# Altium footprint library mw.PcbLib: 123 footprints (part 1 of 8)
Each footprint in its own frame and in the unit in brackets; x right, y up, seen from the top. Pads: shape width x height; smd on the part's side, far side on the other; paste and mask are expansions set on the pad; w line width, h text height; cw(c..) or ccw(c..) is an arc to the next point about the centre after c.
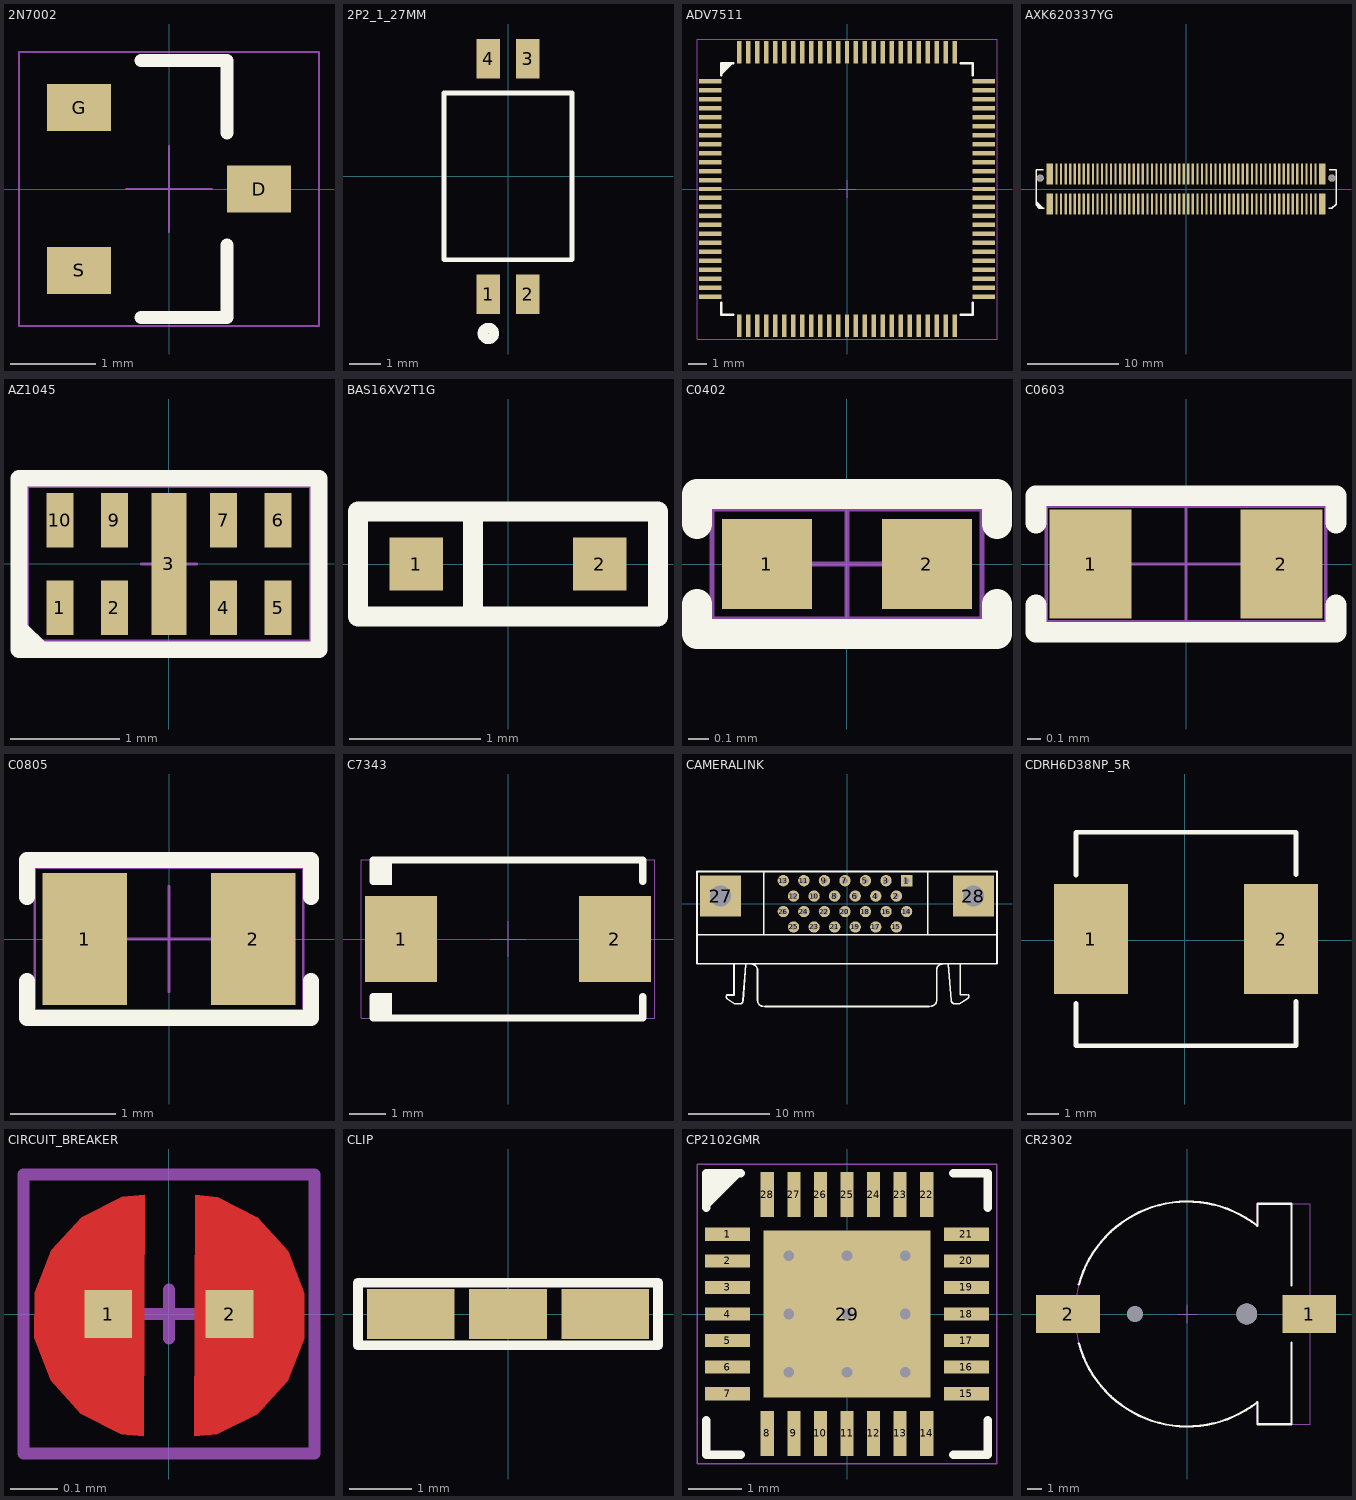
[diagram p0: the footprints below, top view; thin cyan lines are the x and y axes]

## 2N7002 [mm] "SOT23, 3-Leads, Body 2.90x2.40mm, Pitch 0.95mm, IPC High Density"
height 1
pads (3):
  rect 0.75x0.55 smd: D(1.05,0) G(-1.05,0.95) S(-1.05,-0.95)
Top Overlay:
  lines w0.152: -0.325,-1.5 0.675,-1.5 0.675,-0.651 ; -0.325,1.5 0.675,1.5 0.675,0.651
Mechanical 15:
  lines w0.025: -0.5,0 0.5,0 ; 0,-0.5 0,0.5 ; -1.75,-1.6 1.75,-1.6 1.75,1.6 -1.75,1.6 -1.75,-1.6

## 2P2_1_27MM [mm] "2P2_1_27MM"
pads (4):
  rect 0.76x1.27 smd: 1(-0.635,-3.81) 2(0.635,-3.81) 3(0.635,3.81) 4(-0.635,3.81)
Top Overlay:
  circle w0.33: c-0.635,-5.08 r0.18
  lines w0.152: -2.07,-2.7 2.07,-2.7 2.07,2.7 -2.07,2.7 -2.07,-2.7

## ADV7511 [mm] "TSQFP, 100-Leads, Body 14.00x14.00mm, Pitch 0.50mm, IPC High Density"
height 1.6
pads (100):
  rect 1.25x0.25 smd: 1(-7.625,6) 2(-7.625,5.5) 3(-7.625,5) 4(-7.625,4.5) 5(-7.625,4) 6(-7.625,3.5) 7(-7.625,3) 8(-7.625,2.5) 9(-7.625,2) 10(-7.625,1.5) 11(-7.625,1) 12(-7.625,0.5) 13(-7.625,0) 14(-7.625,-0.5) 15(-7.625,-1) 16(-7.625,-1.5) 17(-7.625,-2) 18(-7.625,-2.5) 19(-7.625,-3) 20(-7.625,-3.5) 21(-7.625,-4) 22(-7.625,-4.5) 23(-7.625,-5) 24(-7.625,-5.5) 25(-7.625,-6) 51(7.625,-6) 52(7.625,-5.5) 53(7.625,-5) 54(7.625,-4.5) 55(7.625,-4) 56(7.625,-3.5) 57(7.625,-3) 58(7.625,-2.5) 59(7.625,-2) 60(7.625,-1.5) 61(7.625,-1) 62(7.625,-0.5) 63(7.625,0) 64(7.625,0.5) 65(7.625,1) 66(7.625,1.5) 67(7.625,2) 68(7.625,2.5) 69(7.625,3) 70(7.625,3.5) 71(7.625,4) 72(7.625,4.5) 73(7.625,5) 74(7.625,5.5) 75(7.625,6)
  rect 0.25x1.25 smd: 26(-6,-7.625) 27(-5.5,-7.625) 28(-5,-7.625) 29(-4.5,-7.625) 30(-4,-7.625) 31(-3.5,-7.625) 32(-3,-7.625) 33(-2.5,-7.625) 34(-2,-7.625) 35(-1.5,-7.625) 36(-1,-7.625) 37(-0.5,-7.625) 38(0,-7.625) 39(0.5,-7.625) 40(1,-7.625) 41(1.5,-7.625) 42(2,-7.625) 43(2.5,-7.625) 44(3,-7.625) 45(3.5,-7.625) 46(4,-7.625) 47(4.5,-7.625) 48(5,-7.625) 49(5.5,-7.625) 50(6,-7.625) 76(6,7.625) 77(5.5,7.625) 78(5,7.625) 79(4.5,7.625) 80(4,7.625) 81(3.5,7.625) 82(3,7.625) 83(2.5,7.625) 84(2,7.625) 85(1.5,7.625) 86(1,7.625) 87(0.5,7.625) 88(0,7.625) 89(-0.5,7.625) 90(-1,7.625) 91(-1.5,7.625) 92(-2,7.625) 93(-2.5,7.625) 94(-3,7.625) 95(-3.5,7.625) 96(-4,7.625) 97(-4.5,7.625) 98(-5,7.625) 99(-5.5,7.625) 100(-6,7.625)
Top Overlay:
  region: -6.35,6.985 -6.985,6.35 -6.985,6.985 -7,7
  lines w0.152: -7,-6.35 -7,-7 -6.35,-7 ; -7,6.35 -7,7 -6.35,7 ; 6.35,-7 7,-7 7,-6.35 ; 6.35,7 7,7 7,6.35
Mechanical 15:
  lines w0.025: -0.5,0 0.5,0 ; 0,-0.5 0,0.5 ; -8.35,-8.35 -8.35,8.35 8.35,8.35 8.35,-8.35 -8.35,-8.35

## AXK620337YG [mm] "AXK620337YG"
pads (122):
  rect 0.75x2.3 smd: 1(-15,-1.65) 2(-15,1.65) 119(15,-1.65) 120(15,1.65)
  rect 0.25x2.3 smd: 3(-14.25,-1.65) 4(-14.25,1.65) 5(-13.75,-1.65) 6(-13.75,1.65) 7(-13.25,-1.65) 8(-13.25,1.65) 9(-12.75,-1.65) 10(-12.75,1.65) 11(-12.25,-1.65) 12(-12.25,1.65) 13(-11.75,-1.65) 14(-11.75,1.65) 15(-11.25,-1.65) 16(-11.25,1.65) 17(-10.75,-1.65) 18(-10.75,1.65) 19(-10.25,-1.65) 20(-10.25,1.65) 21(-9.75,-1.65) 22(-9.75,1.65) 23(-9.25,-1.65) 24(-9.25,1.65) 25(-8.75,-1.65) 26(-8.75,1.65) 27(-8.25,-1.65) 28(-8.25,1.65) 29(-7.75,-1.65) 30(-7.75,1.65) 31(-7.25,-1.65) 32(-7.25,1.65) 33(-6.75,-1.65) 34(-6.75,1.65) 35(-6.25,-1.65) 36(-6.25,1.65) 37(-5.75,-1.65) 38(-5.75,1.65) 39(-5.25,-1.65) 40(-5.25,1.65) 41(-4.75,-1.65) 42(-4.75,1.65) 43(-4.25,-1.65) 44(-4.25,1.65) 45(-3.75,-1.65) 46(-3.75,1.65) 47(-3.25,-1.65) 48(-3.25,1.65) 49(-2.75,-1.65) 50(-2.75,1.65) 51(-2.25,-1.65) 52(-2.25,1.65) 53(-1.75,-1.65) 54(-1.75,1.65) 55(-1.25,-1.65) 56(-1.25,1.65) 57(-0.75,-1.65) 58(-0.75,1.65) 59(-0.25,-1.65) 60(-0.25,1.65) 61(0.25,-1.65) 62(0.25,1.65) 63(0.75,-1.65) 64(0.75,1.65) 65(1.25,-1.65) 66(1.25,1.65) 67(1.75,-1.65) 68(1.75,1.65) 69(2.25,-1.65) 70(2.25,1.65) 71(2.75,-1.65) 72(2.75,1.65) 73(3.25,-1.65) 74(3.25,1.65) 75(3.75,-1.65) 76(3.75,1.65) 77(4.25,-1.65) 78(4.25,1.65) 79(4.75,-1.65) 80(4.75,1.65) 81(5.25,-1.65) 82(5.25,1.65) 83(5.75,-1.65) 84(5.75,1.65) 85(6.25,-1.65) 86(6.25,1.65) 87(6.75,-1.65) 88(6.75,1.65) 89(7.25,-1.65) 90(7.25,1.65) 91(7.75,-1.65) 92(7.75,1.65) 93(8.25,-1.65) 94(8.25,1.65) 95(8.75,-1.65) 96(8.75,1.65) 97(9.25,-1.65) 98(9.25,1.65) 99(9.75,-1.65) 100(9.75,1.65) 101(10.25,-1.65) 102(10.25,1.65) 103(10.75,-1.65) 104(10.75,1.65) 105(11.25,-1.65) 106(11.25,1.65) 107(11.75,-1.65) 108(11.75,1.65) 109(12.25,-1.65) 110(12.25,1.65) 111(12.75,-1.65) 112(12.75,1.65) 113(13.25,-1.65) 114(13.25,1.65) 115(13.75,-1.65) 116(13.75,1.65) 117(14.25,-1.65) 118(14.25,1.65)
  round 0.8 hole 0.65: 121(-16.05,1.2) 122(16.05,1.2)
Top Overlay:
  region: -16.51,-1.27 -15.68,-2.1 -16.129,-2.1 -16.504,-1.725
  lines w0.152: -15.697,2.1 -16.504,2.1 -16.504,-1.725 -16.129,-2.1 -15.621,-2.1 ; 15.697,-2.1 16.055,-2.1 16.504,-1.651 16.504,2.1 15.773,2.1
3D body "axk6a2337yg.STEP": height 2.37, standoff -0.05, extent -16.6,-2.286 16.6,2.334

## AZ1045 [mm]
pads (9):
  rect 0.25x0.5 smd: 1(-1,-0.4) 2(-0.5,-0.4) 4(0.5,-0.4) 5(1,-0.4) 6(1,0.4) 7(0.5,0.4) 9(-0.5,0.4) 10(-1,0.4)
  rect 0.32x1.305 smd: 3(0,0)
Top Overlay:
  region: -1.375,-0.787 -1.371,-0.483 -1.067,-0.787
  lines w0.152: -1.375,-0.787 -1.375,0.787 1.375,0.787 1.375,-0.787 -1.375,-0.787
Mechanical 15:
  lines w0.025: -0.254,0 0.254,0 ; 0,0.254 0.004,-0.254 ; -1.298,-0.706 1.298,-0.706 1.298,0.712 -1.298,0.712 -1.298,-0.706
3D body "az1045.STEP": height 0.25, standoff 0, extent -1.25,-0.508 1.25,0.492

## BAS16XV2T1G [mil] "BAS16XV2T1G"
pads (2):
  rect 16x16 smd: 1(-27.56,0) 2(27.56,0)
Top Overlay:
  lines w6: -10.56,-15.75 -10.56,15.75 ; -45,-15.75 -45,15.75 45,15.75 45,-15.75 -45,-15.75

## C0402 [mm] "C0402"
pads (2):
  rect 0.45x0.45 smd: 1(-0.4,0) 2(0.4,0)
Top Overlay:
  lines w0.152: -0.75,-0.2 -0.75,-0.35 0.75,-0.35 0.75,-0.2 ; -0.75,0.2 -0.75,0.35 0.75,0.35 0.75,0.2
Mechanical 15:
  lines w0.025: -0.275,0 0.275,0 ; 0,-0.275 0,0.275 ; -0.674,-0.274 -0.674,0.274 0.674,0.274 0.674,-0.274 -0.674,-0.274
3D body "0402.STEP": height 0.52, standoff 0, extent -0.5,-0.254 0.5,0.254

## C0603 [mm] "C0603"
pads (2):
  rect 0.6x0.8 smd: 1(-0.7,0) 2(0.7,0)
Top Overlay:
  lines w0.152: -1.1,-0.3 -1.1,-0.5 1.1,-0.5 1.1,-0.3 ; -1.1,0.3 -1.1,0.5 1.1,0.5 1.1,0.3
Mechanical 15:
  lines w0.025: -0.45,0 0.45,0 ; 0,-0.45 0,0.45 ; -1.024,-0.424 -1.024,0.424 1.024,0.424 1.024,-0.424 -1.024,-0.424
3D body "0603-thick5.STEP": height 0.5, standoff 0, extent -0.81,-0.404 0.79,0.405

## C0805 [mm] "C0805"
pads (2):
  rect 0.8x1.25 smd: 1(-0.8,0) 2(0.8,0)
Top Overlay:
  lines w0.152: -1.35,-0.4 -1.35,-0.75 1.35,-0.75 1.35,-0.4 ; -1.35,0.4 -1.35,0.75 1.35,0.75 1.35,0.4
Mechanical 15:
  lines w0.025: -0.5,0 0.5,0 ; 0,-0.5 0,0.5 ; -1.275,-0.676 -1.275,0.676 1.275,0.676 1.275,-0.676 -1.275,-0.676
3D body "0805-thickM.STEP": height 1.19, standoff 0, extent -0.989,-0.66 1.011,0.665

## C7343 [mm] "CASE-E tan cap"
pads (2):
  rect 2x2.4 smd: 1(-2.975,0) 2(2.975,0)
Top Overlay:
  rectangle: -3.75,1.499 -3.226,2.2
  rectangle: -3.75,-2.2 -3.226,-1.499
  lines w0.2: -3.75,-1.6 -3.75,-2.2 3.75,-2.2 3.75,-1.6 ; -3.75,1.6 -3.75,2.2 3.75,2.2 3.75,1.6
Mechanical 15:
  lines w0.025: -0.5,0 0.5,0 ; 0,-0.5 0,0.5 ; -4.089,-2.2 -4.089,2.2 4.089,2.2 4.089,-2.2 -4.089,-2.2
3D body "7343-31-CASE-D-2917.STEP": height 2.92, standoff 0, extent -3.63,-2.166 3.681,2.134

## CAMERALINK [mil]
pads (28):
  rect 55.12x55.12 hole 28: 1(290,112.5)
  round 55.12 hole 28: 2(240,37.5) 3(190,112.5) 4(140,37.5) 5(90,112.5) 6(40,37.5) 7(-10,112.5) 8(-60,37.5) 9(-110,112.5) 10(-160,37.5) 11(-210,112.5) 12(-260,37.5) 13(-310,112.5) 14(290,-37.5) 15(240,-112.5) 16(190,-37.5) 17(140,-112.5) 18(90,-37.5) 19(40,-112.5) 20(-10,-37.5) 21(-60,-112.5) 22(-110,-37.5) 23(-160,-112.5) 24(-210,-37.5) 25(-260,-112.5) 26(-310,-37.5)
  rect 200x200 hole 102: 27(-615.5,37.5) 28(615.5,37.5)
Top Overlay:
  lines w7.87: -730,-150 730,-150 ; -583.96,-462.55 -546.96,-487.26 -518.52,-487.26 ccw(c-522.55,-471.61) -506.39,-471.61 ; -583.41,-461.95 cw(c-574.52,-452.32) -584.36,-443.65 -549.71,-443.65 -549.71,-294.44 ; -506.41,-472.39 -491.84,-294.44 ; -462.7,-294.64 cw(c-462.7,-322) -435.34,-322 -435.34,-471.61 ; -435.08,-471.2 ccw(c-407.72,-471.2) -407.72,-498.56 ; -405.15,-150 -405.15,157.5 ; -400,-500 400,-500 ; 393.42,-150 393.42,157.5 ; 408.93,-497.69 ccw(c408.93,-470.32) 436.29,-470.32 ; 436.49,-470.13 436.49,-320.52 cw(c463.85,-320.52) 463.85,-293.16 ; 492.99,-292.96 507.55,-470.91 ; 507.53,-470.13 ccw(c523.7,-470.13) 519.67,-485.78 548.1,-485.78 585.11,-461.07 ; 550.86,-292.96 550.86,-442.17 585.51,-442.17 ; 588.89,-460.06 ccw(c580,-450.42) 589.84,-441.76 ; -730,-292.5 -730,157.5 730,157.5 730,-292.5 -730,-292.5

## CDRH6D38NP_5R [mil] "CDRH6D38NP_5R"
pads (2):
  rect 92.5x137.8 smd: 1(-117.59,1.5) 2(120.59,1.5)
Top Overlay:
  lines w6: -136.3,-79.5 -136.3,-132.36 139.3,-132.36 139.3,-76.5 ; -136.3,81.5 -136.3,135.36 139.3,135.36 139.3,82.5
Mechanical 10:
  text "1" at -107.59,1.5 h25
  text "2" at 130.59,1.5 h25

## CIRCUIT_BREAKER [mm]
pads (2):
  rect 0.1x0.1 smd: 1(-0.127,0) 2(0.127,0)
Top Layer:
  region: -0.053,-0.256 -0.1,-0.252 -0.184,-0.209 -0.248,-0.138 -0.282,-0.05 -0.281,0.045 -0.247,0.133 -0.182,0.203 -0.098,0.245 -0.05,0.249
  region: 0.055,0.25 0.102,0.245 0.187,0.202 0.25,0.132 0.284,0.043 0.283,-0.052 0.249,-0.14 0.185,-0.21 0.1,-0.252 0.053,-0.256
Top Solder:
  region: 0,-0.286 -0.06,-0.288 -0.172,-0.247 -0.261,-0.166 -0.311,-0.058 -0.314,0.002 -0.31,0.061 -0.258,0.166 -0.17,0.244 -0.058,0.282 0,0.278 0.059,0.282 0.17,0.244 0.259,0.166 0.311,0.061 0.314,0.002 0.312,-0.058 0.261,-0.166 0.173,-0.247 0.06,-0.288
Mechanical 15:
  lines w0.025: -0.051,0 0.051,0 ; 0,-0.051 0,0.051 ; -0.305,-0.292 -0.305,0.292 0.305,0.292 0.305,-0.292 -0.305,-0.292

## CLIP [mm]
pads (3):
  rect 1.4x0.8 smd: ""(-1.555,0) ""(1.555,0)
  rect 1.25x0.8 smd: ""(0,0)
Top Overlay:
  lines w0.152: -2.4,-0.5 2.4,-0.5 2.4,0.5 -2.4,0.5 -2.4,-0.5
Mechanical 15:
  lines w0.025: -0.254,0 0.254,0 ; -0.001,-0.375 -0.001,0.4 ; -2.4,-0.5 2.4,-0.5 2.4,0.5 -2.4,0.5 -2.4,-0.5

## CP2102GMR [mm] "QFN, 28-Leads, Body 5.00x5.00mm, Pitch 0.50mm, Thermal Pad 3.20x3.20mm, IPC High Density"
height 1
pads (29):
  rect 0.85x0.25 smd: 1(-2.25,1.5) 2(-2.25,1) 3(-2.25,0.5) 4(-2.25,0) 5(-2.25,-0.5) 6(-2.25,-1) 7(-2.25,-1.5) 15(2.25,-1.5) 16(2.25,-1) 17(2.25,-0.5) 18(2.25,0) 19(2.25,0.5) 20(2.25,1) 21(2.25,1.5)
  rect 0.25x0.85 smd: 8(-1.5,-2.25) 9(-1,-2.25) 10(-0.5,-2.25) 11(0,-2.25) 12(0.5,-2.25) 13(1,-2.25) 14(1.5,-2.25) 22(1.5,2.25) 23(1,2.25) 24(0.5,2.25) 25(0,2.25) 26(-0.5,2.25) 27(-1,2.25) 28(-1.5,2.25)
  rect 3.15x3.15 smd: 29(0,0)
via 1.1,-1.1 diameter 0.45 hole 0.2
via 0,-1.1 diameter 0.45 hole 0.2
via -1.1,-1.1 diameter 0.45 hole 0.2
via 1.1,0 diameter 0.45 hole 0.2
via 0,0 diameter 0.45 hole 0.2
via -1.1,0 diameter 0.45 hole 0.2
via 1.1,1.1 diameter 0.45 hole 0.2
via 0,1.1 diameter 0.45 hole 0.2
via -1.1,1.1 diameter 0.45 hole 0.2
Top Overlay:
  region: -1.954,2.65 -2.65,1.954 -2.65,2.65
  lines w0.152: -2.65,-2.001 -2.65,-2.65 -2.001,-2.65 ; -2.65,2.001 -2.65,2.65 -2.001,2.65 ; 2.001,-2.65 2.65,-2.65 2.65,-2.001 ; 2.001,2.65 2.65,2.65 2.65,2.001
Mechanical 15:
  lines w0.025: -0.5,0 0.5,0 ; 0,-0.5 0,0.5 ; -2.825,-2.825 2.825,-2.825 2.825,2.825 -2.825,2.825 -2.825,-2.825
3D body "cp2102gmr.STEP": height 0.82, standoff 0, extent -2.51,-2.52 2.51,2.5

## CR2302 [mm]
pads (4):
  rect 3.6x2.55 smd: 1(8.17,0)
  rect 4.3x2.55 smd: 2(-8.01,0)
  round 1.05 hole 1.05 unplated: ""(-3.52,0)
  round 1.4 hole 1.4 unplated: ""(3.98,0)
Top Overlay:
  lines w0.152: -7.284,-1.987 ccw(c0,0) 4.686,-5.92 ; -7.284,1.987 cw(c0,0) 4.686,5.92 ; 4.699,-5.909 4.699,-7.4 6.985,-7.4 6.985,-1.905 ; 4.699,5.909 4.699,7.4 6.985,7.4 6.985,1.905
Mechanical 15:
  lines w0.025: -0.635,0 0.635,0 ; 0,-0.635 0,0.635 ; 4.686,-5.92 cw(c0,0) 4.699,5.909 4.699,7.4 8.255,7.4 8.255,-7.4 4.699,-7.4 4.699,-5.909